# EAGLE library part RESISTOR_NETWORK_6 (library WallerLabLib)
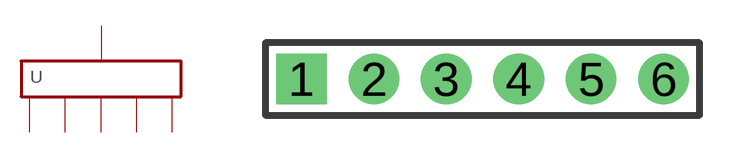
[diagram p6: symbol with the pads of 6PIN_HOLES; footprint 6PIN_HOLES]

Designator prefix -

## RESISTOR_NETWORK_6  [6PIN_HOLES]
1  COMMON
2  R1
3  R2
4  R3
5  R4
6  R5

## Footprint 6PIN_HOLES (pad centres in mm)
drill 0.9 pad 1.778 square: 1 -6.35,0
drill 0.9 pad 1.778: 2 -3.81,0; 3 -1.27,0; 4 1.27,0; 5 3.81,0; 6 6.35,0